# Altium footprint library BRK7360.PcbLib: 26 footprints (part 1 of 2)
Each footprint in its own frame and in the unit in brackets; x right, y up, seen from the top. Pads: shape width x height; smd on the part's side, far side on the other; paste and mask are expansions set on the pad; w line width, h text height; cw(c..) or ccw(c..) is an arc to the next point about the centre after c.
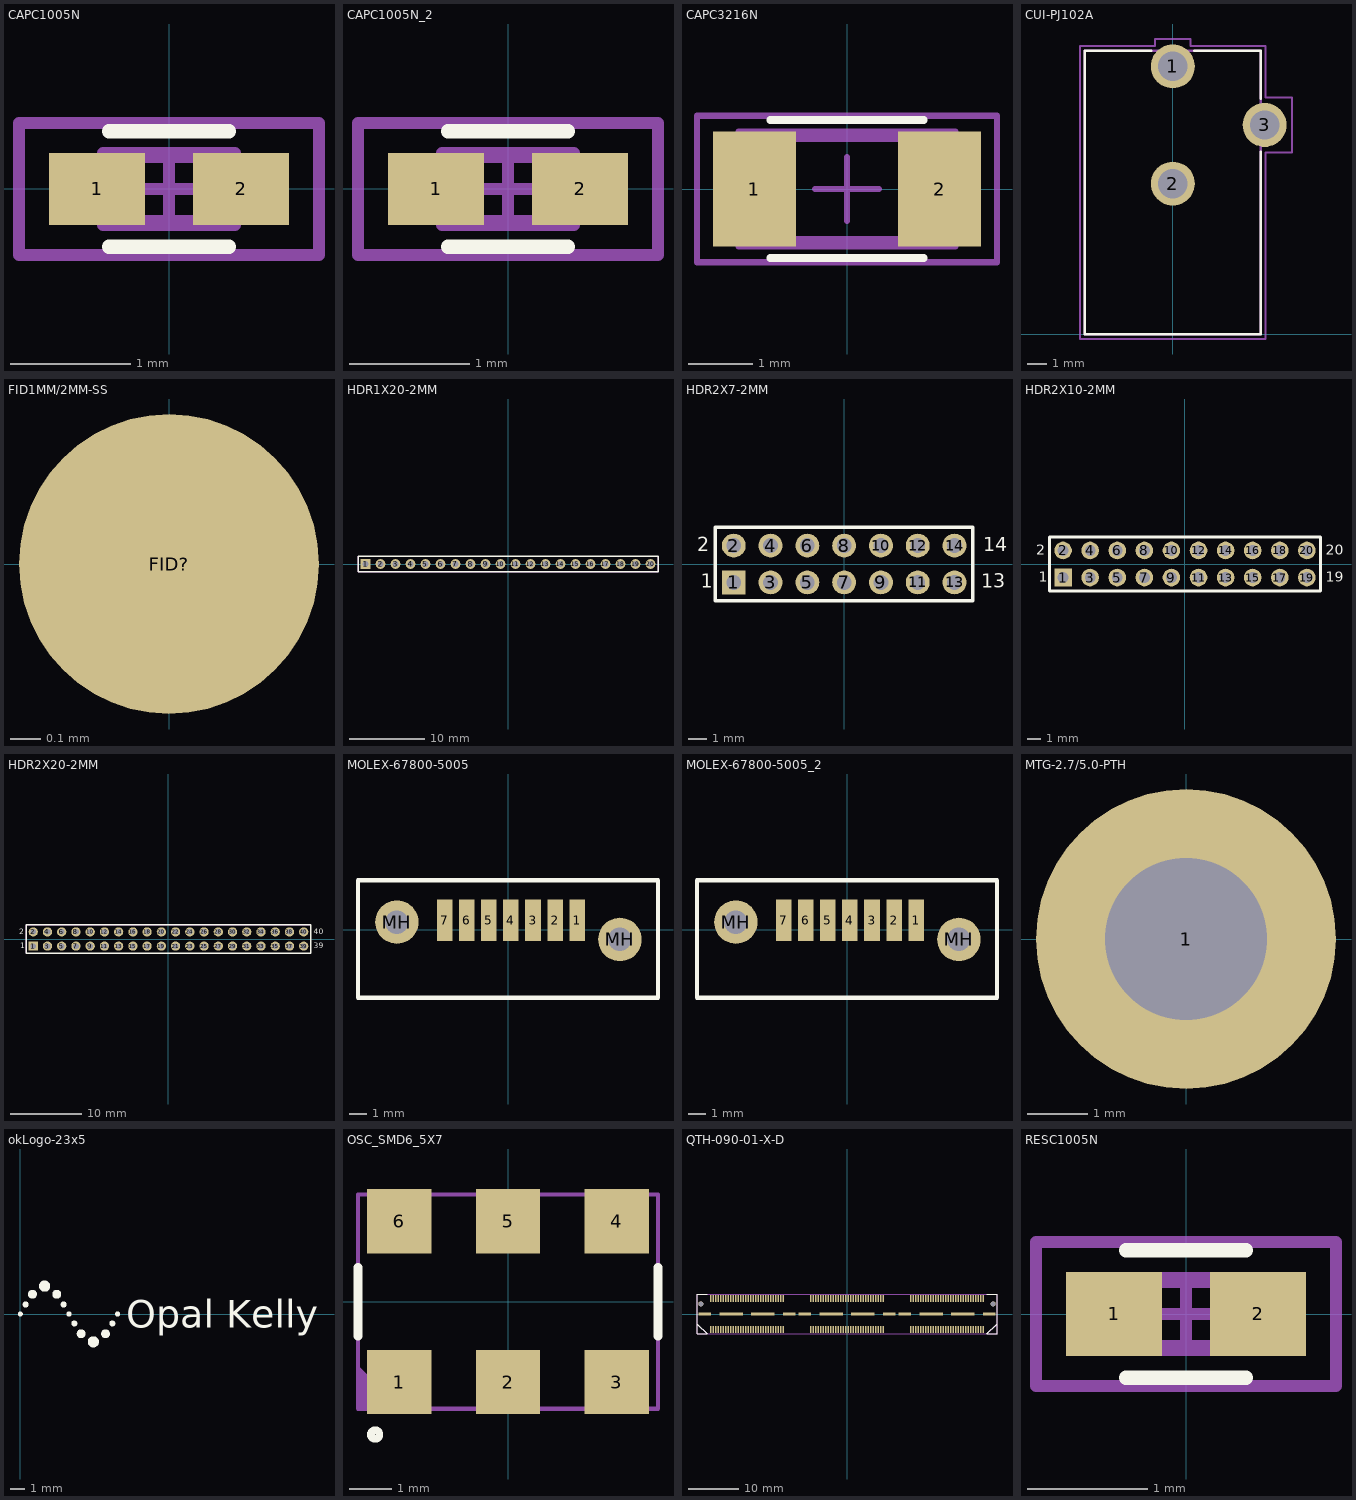
[diagram p0: the footprints below, top view; thin cyan lines are the x and y axes]

## CAPC1005N [mm]
pads (2):
  rect 0.8x0.6 smd: 1(-0.6,0) 2(0.6,0)
Top Overlay:
  lines w0.12: -0.5,-0.48 0.5,-0.48 ; -0.5,0.48 0.5,0.48
Mechanical 13:
  lines w0.1: -0.55,-0.3 0.55,-0.3 0.55,0.3 -0.55,0.3 -0.55,-0.3
Mechanical 15:
  lines w0.1: -0.3,0 0.3,0 ; 0,-0.3 0,0.3 ; -1.25,-0.55 1.25,-0.55 1.25,0.55 -1.25,0.55 -1.25,-0.55
Mechanical 16:
  lines w0.064: -0.5,-0.25 -0.5,0.25 0.5,0.25 0.5,-0.25 -0.5,-0.25
Mechanical 29:
  text ".Designator" at -0.381,-0.102 h0.2
3D body: height 0.6, standoff 0, extent -0.55,-0.3 0.55,0.3

## CAPC1005N_2 [mm]
pads (2):
  rect 0.8x0.6 smd: 1(-0.6,0) 2(0.6,0)
Top Overlay:
  lines w0.12: -0.5,-0.48 0.5,-0.48 ; -0.5,0.48 0.5,0.48
Mechanical 13:
  lines w0.1: -0.55,-0.3 -0.55,0.3 0.55,0.3 0.55,-0.3 -0.55,-0.3
Mechanical 15:
  lines w0.1: -0.3,0 0.3,0 ; 0,-0.3 0,0.3 ; -1.25,-0.55 -1.25,0.55 1.25,0.55 1.25,-0.55 -1.25,-0.55
Mechanical 16:
  lines w0.064: -0.5,-0.25 0.5,-0.25 0.5,0.25 -0.5,0.25 -0.5,-0.25
Mechanical 29:
  text ".Designator" at -0.381,-0.102 h0.2
3D body: height 0.6, standoff 0, extent -0.55,-0.3 0.55,0.3

## CAPC3216N [mm]
pads (2):
  rect 1.3x1.8 smd: 1(-1.45,0) 2(1.45,0)
Top Overlay:
  lines w0.12: -1.2,-1.08 1.2,-1.08 ; -1.2,1.08 1.2,1.08
Mechanical 13:
  lines w0.1: -1.7,-0.9 1.7,-0.9 1.7,0.9 -1.7,0.9 -1.7,-0.9
Mechanical 15:
  lines w0.1: -0.5,0 0.5,0 ; 0,-0.5 0,0.5 ; -2.35,-1.15 2.35,-1.15 2.35,1.15 -2.35,1.15 -2.35,-1.15
Mechanical 16:
  lines w0.127: -1.6,-0.8 1.6,-0.8 1.6,0.8 -1.6,0.8 -1.6,-0.8
Mechanical 29:
  text ".Designator" at -1.1,-0.3 h0.61
3D body: height 1.35, standoff 0, extent -1.7,-0.9 1.7,0.9

## CUI-PJ102A [mm]
pads (3):
  round 2.25 hole 1.5: 1(0,13.7) 2(0,7.7) 3(4.7,10.7)
Top Overlay:
  lines w0.12: -1.1,14.5 -4.5,14.5 -4.5,0 4.5,0 4.5,9.33 ; 1.1,14.5 4.5,14.5 4.5,12.04
Mechanical 15:
  lines w0.1: -4.75,-0.25 -4.75,14.75 -0.9,14.75 -0.9,15.1 0.9,15.1 0.9,14.75 4.75,14.75 4.75,12.1 6.1,12.1 6.1,9.3 4.75,9.3 4.75,-0.25 -4.75,-0.25
Mechanical 16:
  lines w0.127: -4.5,0 -4.5,14.5 4.5,14.5 4.5,0 -4.5,0
Mechanical 29:
  text ".Designator" at -0.974,6.926 h1.27

## FID1MM/2MM-SS [mm]
pads (1):
  round 1 smd paste-0.5 mask+0.5: FID?(0,0)

## HDR1X20-2MM [mm]
pads (20):
  rect 1.3x1.3 hole 0.8: 1(-19,0)
  round 1.3 hole 0.8: 2(-17,0) 3(-15,0) 4(-13,0) 5(-11,0) 6(-9,0) 7(-7,0) 8(-5,0) 9(-3,0) 10(-1,0) 11(1,0) 12(3,0) 13(5,0) 14(7,0) 15(9,0) 16(11,0) 17(13,0) 18(15,0) 19(17,0) 20(19,0)
Top Overlay:
  lines w0.2: -20,-1 20,-1 20,1 -20,1 -20,-1
Mechanical 16:
  lines w0.1: -20,-1 -20,1 20,1 20,-1 -20,-1
Mechanical 29:
  text ".Designator" at -3.584,-0.5 h1.02

## HDR2X7-2MM [mm]
pads (14):
  rect 1.3x1.3 hole 0.8: 1(-6,-1)
  round 1.3 hole 0.8: 2(-6,1) 3(-4,-1) 4(-4,1) 5(-2,-1) 6(-2,1) 7(0,-1) 8(0,1) 9(2,-1) 10(2,1) 11(4,-1) 12(4,1) 13(6,-1) 14(6,1)
Top Overlay:
  lines w0.2: -7,-2 7,-2 7,2 -7,2 -7,-2
  text "1" at -7.8,-1.3 h0.75
  text "2" at -8,0.7 h0.75
  text "13" at 7.46,-1.3 h0.75
  text "14" at 7.56,0.7 h0.75
Mechanical 16:
  lines w0.1: -7,-2 7,-2 7,2 -7,2 -7,-2
Mechanical 29:
  text ".Designator" at -1.504,-0.509 h1.27

## HDR2X10-2MM [mm]
pads (20):
  rect 1.3x1.3 hole 0.8: 1(-9,-1)
  round 1.3 hole 0.8: 2(-9,1) 3(-7,-1) 4(-7,1) 5(-5,-1) 6(-5,1) 7(-3,-1) 8(-3,1) 9(-1,-1) 10(-1,1) 11(1,-1) 12(1,1) 13(3,-1) 14(3,1) 15(5,-1) 16(5,1) 17(7,-1) 18(7,1) 19(9,-1) 20(9,1)
Top Overlay:
  lines w0.2: -10,-2 10,-2 10,2 -10,2 -10,-2
  text "1" at -10.8,-1.3 h0.75
  text "2" at -11,0.7 h0.75
  text "19" at 10.4,-1.3 h0.75
  text "20" at 10.4,0.7 h0.75
Mechanical 16:
  lines w0.1: -10,-2 10,-2 10,2 -10,2 -10,-2
Mechanical 29:
  text ".Designator" at -1.401,-0.492 h1.27

## HDR2X20-2MM [mm]
pads (40):
  rect 1.3x1.3 hole 0.8: 1(-19,-1)
  round 1.3 hole 0.8: 2(-19,1) 3(-17,-1) 4(-17,1) 5(-15,-1) 6(-15,1) 7(-13,-1) 8(-13,1) 9(-11,-1) 10(-11,1) 11(-9,-1) 12(-9,1) 13(-7,-1) 14(-7,1) 15(-5,-1) 16(-5,1) 17(-3,-1) 18(-3,1) 19(-1,-1) 20(-1,1) 21(1,-1) 22(1,1) 23(3,-1) 24(3,1) 25(5,-1) 26(5,1) 27(7,-1) 28(7,1) 29(9,-1) 30(9,1) 31(11,-1) 32(11,1) 33(13,-1) 34(13,1) 35(15,-1) 36(15,1) 37(17,-1) 38(17,1) 39(19,-1) 40(19,1)
Top Overlay:
  lines w0.2: -20,-2 20,-2 20,2 -20,2 -20,-2
  text "1" at -20.8,-1.3 h0.75
  text "2" at -21,0.7 h0.75
  text "39" at 20.4,-1.3 h0.75
  text "40" at 20.4,0.7 h0.75
Mechanical 16:
  lines w0.1: -20,-2 -20,2 20,2 20,-2 -20,-2
Mechanical 29:
  text ".Designator" at -3.95,-0.5 h1.27

## MOLEX-67800-5005 [mm]
pads (9):
  rect 0.9x2.4 smd: 1(3.955,0.55) 2(2.685,0.55) 3(1.415,0.55) 4(0.145,0.55) 5(-1.125,0.55) 6(-2.395,0.55) 7(-3.665,0.55)
  round 2.5 hole 1.35: MH(-6.415,0.45) MH(6.415,-0.55)
Top Overlay:
  lines w0.254: -8.65,-3.9 -8.65,2.854 8.604,2.854 8.604,-3.9 -8.65,-3.9
Mechanical 16:
  lines w0.1: -8.65,-3.9 -8.65,2.85 8.6,2.85 8.6,-3.9 -8.65,-3.9
Mechanical 29:
  text ".Designator" at -3.55,-0.95 h1.27

## MOLEX-67800-5005_2 [mm]
pads (9):
  rect 0.9x2.4 smd: 1(3.955,0.55) 2(2.685,0.55) 3(1.415,0.55) 4(0.145,0.55) 5(-1.125,0.55) 6(-2.395,0.55) 7(-3.665,0.55)
  round 2.5 hole 1.35: MH(-6.415,0.45) MH(6.415,-0.55)
Top Overlay:
  lines w0.254: -8.65,-3.9 8.604,-3.9 8.604,2.854 -8.65,2.854 -8.65,-3.9
Mechanical 16:
  lines w0.1: -8.65,-3.9 8.6,-3.9 8.6,2.85 -8.65,2.85 -8.65,-3.9
Mechanical 29:
  text ".Designator" at -3.55,-0.95 h1.27

## MTG-2.7/5.0-PTH [mm]
pads (1):
  round 5 / inner round 3.175 / far side round 5 hole 2.7: 1(0,0)

## okLogo-23x5 [mm]
Top Overlay:
  circle w0.171: c0,0 r0.086
  circle w0.21: c0.367,0.648 r0.105
  circle w0.305: c0.833,1.353 r0.152
  circle w0.381: c1.667,1.905 r0.191
  circle w0.171: c3.334,0 r0.086
  circle w0.171: c6.667,0 r0.086
  circle w0.381: c5.001,-1.905 r0.191
  circle w0.305: c2.5,1.353 r0.152
  circle w0.305: c4.167,-1.353 r0.152
  circle w0.305: c5.834,-1.353 r0.152
  circle w0.21: c2.967,0.648 r0.105
  circle w0.21: c3.7,-0.648 r0.105
  circle w0.21: c6.301,-0.648 r0.105
  text "Opal Kelly" at 7.239,-0.953 h1.91

## OSC_SMD6_5X7 [mm]
pads (6):
  rect 1.5x1.5 smd: 1(-2.54,-1.875) 2(0,-1.875) 3(2.54,-1.875) 4(2.54,1.875) 5(0,1.875) 6(-2.54,1.875)
Top Overlay:
  circle w0.178: c-3.1,-3.1 r0.1
  lines w0.203: -3.5,-0.8 -3.5,0.8 ; 3.5,-0.8 3.5,0.8
Mechanical 16:
  region: -3.5,-2.5 -3.5,-1.5 -2.5,-2.5
  lines w0.1: -3.5,-2.5 3.5,-2.5 3.5,2.5 -3.5,2.5 -3.5,-2.5
Mechanical 29:
  text ".Designator" at -1.5,-0.5 h1.02

## QTH-090-01-X-D [mm]
pads (194):
  rect 2.54x0.64 smd: 0(-28.445,0) 0(-11.555,0) 0(-8.445,0) 0(8.445,0) 0(11.555,0) 0(28.445,0)
  rect 4.7x0.64 smd: 0(-23.175,0) 0(-16.825,0) 0(-3.175,0) 0(3.175,0) 0(16.825,0) 0(23.175,0)
  rect 0.3x1.45 smd: 1(-27.25,3.09) 2(-27.25,-3.09) 3(-26.75,3.09) 4(-26.75,-3.09) 5(-26.25,3.09) 6(-26.25,-3.09) 7(-25.75,3.09) 8(-25.75,-3.09) 9(-25.25,3.09) 10(-25.25,-3.09) 11(-24.75,3.09) 12(-24.75,-3.09) 13(-24.25,3.09) 14(-24.25,-3.09) 15(-23.75,3.09) 16(-23.75,-3.09) 17(-23.25,3.09) 18(-23.25,-3.09) 19(-22.75,3.09) 20(-22.75,-3.09) 21(-22.25,3.09) 22(-22.25,-3.09) 23(-21.75,3.09) 24(-21.75,-3.09) 25(-21.25,3.09) 26(-21.25,-3.09) 27(-20.75,3.09) 28(-20.75,-3.09) 29(-20.25,3.09) 30(-20.25,-3.09) 31(-19.75,3.09) 32(-19.75,-3.09) 33(-19.25,3.09) 34(-19.25,-3.09) 35(-18.75,3.09) 36(-18.75,-3.09) 37(-18.25,3.09) 38(-18.25,-3.09) 39(-17.75,3.09) 40(-17.75,-3.09) 41(-17.25,3.09) 42(-17.25,-3.09) 43(-16.75,3.09) 44(-16.75,-3.09) 45(-16.25,3.09) 46(-16.25,-3.09) 47(-15.75,3.09) 48(-15.75,-3.09) 49(-15.25,3.09) 50(-15.25,-3.09) 51(-14.75,3.09) 52(-14.75,-3.09) 53(-14.25,3.09) 54(-14.25,-3.09) 55(-13.75,3.09) 56(-13.75,-3.09) 57(-13.25,3.09) 58(-13.25,-3.09) 59(-12.75,3.09) 60(-12.75,-3.09) 61(-7.25,3.09) 62(-7.25,-3.09) 63(-6.75,3.09) 64(-6.75,-3.09) 65(-6.25,3.09) 66(-6.25,-3.09) 67(-5.75,3.09) 68(-5.75,-3.09) 69(-5.25,3.09) 70(-5.25,-3.09) 71(-4.75,3.09) 72(-4.75,-3.09) 73(-4.25,3.09) 74(-4.25,-3.09) 75(-3.75,3.09) 76(-3.75,-3.09) 77(-3.25,3.09) 78(-3.25,-3.09) 79(-2.75,3.09) 80(-2.75,-3.09) 81(-2.25,3.09) 82(-2.25,-3.09) 83(-1.75,3.09) 84(-1.75,-3.09) 85(-1.25,3.09) 86(-1.25,-3.09) 87(-0.75,3.09) 88(-0.75,-3.09) 89(-0.25,3.09) 90(-0.25,-3.09) 91(0.25,3.09) 92(0.25,-3.09) 93(0.75,3.09) 94(0.75,-3.09) 95(1.25,3.09) 96(1.25,-3.09) 97(1.75,3.09) 98(1.75,-3.09) 99(2.25,3.09) 100(2.25,-3.09) 101(2.75,3.09) 102(2.75,-3.09) 103(3.25,3.09) 104(3.25,-3.09) 105(3.75,3.09) 106(3.75,-3.09) 107(4.25,3.09) 108(4.25,-3.09) 109(4.75,3.09) 110(4.75,-3.09) 111(5.25,3.09) 112(5.25,-3.09) 113(5.75,3.09) 114(5.75,-3.09) 115(6.25,3.09) 116(6.25,-3.09) 117(6.75,3.09) 118(6.75,-3.09) 119(7.25,3.09) 120(7.25,-3.09) 121(12.75,3.09) 122(12.75,-3.09) 123(13.25,3.09) 124(13.25,-3.09) 125(13.75,3.09) 126(13.75,-3.09) 127(14.25,3.09) 128(14.25,-3.09) 129(14.75,3.09) 130(14.75,-3.09) 131(15.25,3.09) 132(15.25,-3.09) 133(15.75,3.09) 134(15.75,-3.09) 135(16.25,3.09) 136(16.25,-3.09) 137(16.75,3.09) 138(16.75,-3.09) 139(17.25,3.09) 140(17.25,-3.09) 141(17.75,3.09) 142(17.75,-3.09) 143(18.25,3.09) 144(18.25,-3.09) 145(18.75,3.09) 146(18.75,-3.09) 147(19.25,3.09) 148(19.25,-3.09) 149(19.75,3.09) 150(19.75,-3.09) 151(20.25,3.09) 152(20.25,-3.09) 153(20.75,3.09) 154(20.75,-3.09) 155(21.25,3.09) 156(21.25,-3.09) 157(21.75,3.09) 158(21.75,-3.09) 159(22.25,3.09) 160(22.25,-3.09) 161(22.75,3.09) 162(22.75,-3.09) 163(23.25,3.09) 164(23.25,-3.09) 165(23.75,3.09) 166(23.75,-3.09) 167(24.25,3.09) 168(24.25,-3.09) 169(24.75,3.09) 170(24.75,-3.09) 171(25.25,3.09) 172(25.25,-3.09) 173(25.75,3.09) 174(25.75,-3.09) 175(26.25,3.09) 176(26.25,-3.09) 177(26.75,3.09) 178(26.75,-3.09) 179(27.25,3.09) 180(27.25,-3.09)
  round 1.02 hole 1.02 unplated: MH(-29.24,2.03) MH(29.24,2.03)
Top Overlay:
  lines w0.127: -28,4 -30,4 -30,-2 ; 28,4 30,4 30,-4 28,-4 30,-2 ; -30,-2 -28,-4 -30,-4 -30,-2
Mechanical 16:
  lines w0.1: -30,-2 -28,-4 ; 28,-4 30,-2 ; -30,-4 -30,4 30,4 30,-4 -30,-4
Mechanical 29:
  text ".Designator" at -2.5,-0.5 h1.27

## RESC1005N [mm]
pads (2):
  rect 0.8x0.7 smd: 1(-0.6,0) 2(0.6,0)
Top Overlay:
  lines w0.12: -0.5,-0.53 0.5,-0.53 ; -0.5,0.53 0.5,0.53
Mechanical 13:
  lines w0.1: -0.55,-0.3 0.55,-0.3 0.55,0.3 -0.55,0.3 -0.55,-0.3
Mechanical 15:
  lines w0.1: -0.3,0 0.3,0 ; 0,-0.3 0,0.3 ; -1.25,-0.6 1.25,-0.6 1.25,0.6 -1.25,0.6 -1.25,-0.6
Mechanical 16:
  lines w0.064: -0.5,-0.25 0.5,-0.25 0.5,0.25 -0.5,0.25 -0.5,-0.25
Mechanical 29:
  text ".Designator" at -0.384,-0.1 h0.2
3D body: height 0.4, standoff 0, extent -0.55,-0.3 0.55,0.3